# Altium footprint library SOT 89.PcbLib: 6 footprints
Each footprint in its own frame and in the unit in brackets; x right, y up, seen from the top. Pads: shape width x height; smd on the part's side, far side on the other; paste and mask are expansions set on the pad; w line width, h text height; cw(c..) or ccw(c..) is an arc to the next point about the centre after c.
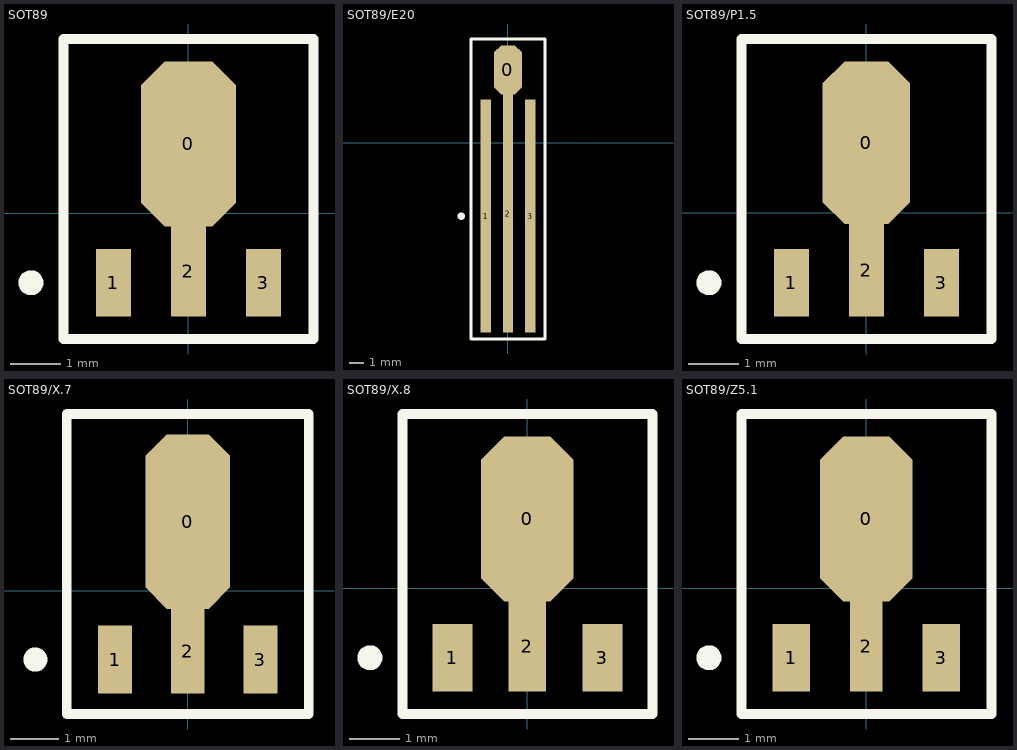
[diagram p0: the footprints below, top view; thin cyan lines are the x and y axes]

## SOT89 [mm] "SOT-89; Body 4.6 x 4.25 mm, inc. leads (LxW max)"
height 1.6
pads (4):
  oct 1.9x3.3 smd: 0(0,1.388)
  rect 0.7x1.35 smd: 1(-1.5,-1.388) 3(1.5,-1.388)
  rect 0.7x1.8 smd: 2(0,-1.162)
Top Overlay:
  circle w0.25: c-3.15,-1.388 r0.125
  lines w0.2: -2.5,-2.512 2.5,-2.512 2.5,3.487 -2.5,3.487 -2.5,-2.512

## SOT89/E20 [mm] "SOT-89; Body 4.6 x 18.5 mm, inc. leads (LxW max)"
height 1.6
pads (4):
  oct 1.9x3.3 smd: 0(0,4.925)
  rect 0.7x15.7 smd: 1(-1.5,-4.925) 3(1.5,-4.925)
  rect 0.7x16.05 smd: 2(0,-4.75)
Top Overlay:
  circle w0.25: c-3.15,-4.925 r0.125
  lines w0.2: -2.5,-13.2 2.5,-13.2 2.5,7 -2.5,7 -2.5,-13.2

## SOT89/P1.5 [mm] "SOT-89; Body 4.6 x 4.25 mm, inc. leads (LxW max)"
height 1.6
pads (4):
  oct 1.75x3.25 smd: 0(0,1.4)
  rect 0.7x1.35 smd: 1(-1.5,-1.4) 3(1.5,-1.4)
  rect 0.7x1.85 smd: 2(0,-1.15)
Top Overlay:
  circle w0.25: c-3.15,-1.4 r0.125
  lines w0.2: -2.5,-2.525 2.5,-2.525 2.5,3.475 -2.5,3.475 -2.5,-2.525

## SOT89/X.7 [mm] "SOT-89; Body 4.7 x 4.5 mm, inc. leads (LxW max)"
height 1.7
pads (4):
  oct 1.75x3.6 smd: 0(0,1.425)
  rect 0.7x1.4 smd: 1(-1.5,-1.425) 3(1.5,-1.425)
  rect 0.7x1.75 smd: 2(0,-1.25)
Top Overlay:
  circle w0.25: c-3.15,-1.425 r0.125
  lines w0.2: -2.5,-2.55 -2.5,3.65 2.5,3.65 2.5,-2.55 -2.5,-2.55

## SOT89/X.8 [mm] "SOT-89; Body 4.6 x 4.25 mm, inc. leads (LxW max)"
height 1.6
pads (4):
  oct 1.85x3.3 smd: 0(0,1.388)
  rect 0.8x1.35 smd: 1(-1.5,-1.387) 3(1.5,-1.387)
  rect 0.75x1.8 smd: 2(0,-1.162)
Top Overlay:
  circle w0.25: c-3.15,-1.387 r0.125
  lines w0.2: -2.5,-2.512 -2.5,3.487 2.5,3.487 2.5,-2.512 -2.5,-2.512

## SOT89/Z5.1 [mm] "SOT-89; Body 4.6 x 4.25 mm, inc. leads (LxW max)"
height 1.6
pads (4):
  oct 1.85x3.3 smd: 0(0,1.388)
  rect 0.75x1.35 smd: 1(-1.5,-1.387) 3(1.5,-1.387)
  rect 0.65x1.8 smd: 2(0,-1.162)
Top Overlay:
  circle w0.25: c-3.15,-1.387 r0.125
  lines w0.2: -2.5,-2.512 -2.5,3.487 2.5,3.487 2.5,-2.512 -2.5,-2.512